# Altium footprint library SMD POWER INDUCTOR.PcbLib: 4 footprints
Each footprint in its own frame and in the unit in brackets; x right, y up, seen from the top. Pads: shape width x height; smd on the part's side, far side on the other; paste and mask are expansions set on the pad; w line width, h text height; cw(c..) or ccw(c..) is an arc to the next point about the centre after c.
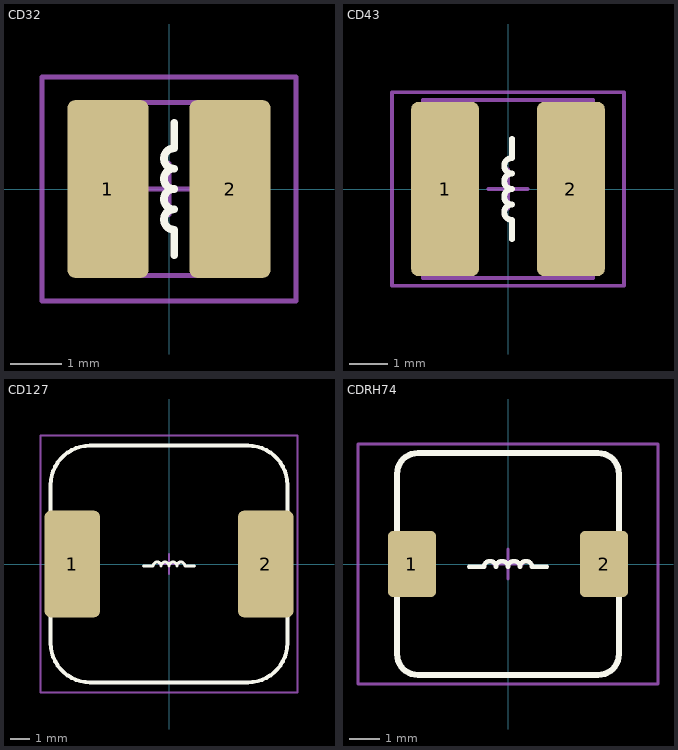
[diagram p0: the footprints below, top view; thin cyan lines are the x and y axes]

## CD32 [mm]
pads (2):
  rrect20% 1.6x3.5 smd mask+0.05: 1(-1.2,0) 2(1.2,0)
Top Overlay:
  lines w0.15: 0.1,-1.3 0.1,-0.8 cw(c0.1,-0.6) 0.1,-0.4 cw(c0.1,-0.2) 0.1,0 cw(c0.1,0.2) 0.1,0.4 cw(c0.1,0.6) 0.1,0.8 0.1,1.3
Bottom Assembly:
  lines w0.1: -1.8,-1.7 -1.8,1.7 1.8,1.7 1.8,-1.7 -1.8,-1.7
Top Courtyard:
  lines w0.1: -2.5,-2.2 2.5,-2.2 2.5,2.2 -2.5,2.2 -2.5,-2.2
Top Component Center:
  lines w0.1: -0.5,0 0.5,0 ; 0,-0.5 0,0.5
3D body "Inductor_CD32.STEP": height 2.3, standoff -0.17, extent -1.704,-1.644 1.704,1.644

## CD43 [mm]
pads (2):
  rrect20% 1.75x4.5 smd mask+0.05: 1(-1.625,0) 2(1.625,0)
Top Overlay:
  lines w0.15: 0.1,-1.3 0.1,-0.8 cw(c0.1,-0.6) 0.1,-0.4 cw(c0.1,-0.2) 0.1,0 cw(c0.1,0.2) 0.1,0.4 cw(c0.1,0.6) 0.1,0.8 0.1,1.3
Bottom Assembly:
  lines w0.1: -2.2,-2.3 2.2,-2.3 2.2,2.3 -2.2,2.3 -2.2,-2.3
Top Courtyard:
  lines w0.1: -3,-2.5 -3,2.5 3,2.5 3,-2.5 -3,-2.5
Top Component Center:
  lines w0.1: -0.5,0 0.5,0 ; 0,-0.5 0,0.5
3D body "CD43_inductor.STEP": height 3.2, standoff 0, extent -2.194,-2.25 2.194,2.25

## CD127 [mm]
pads (2):
  rrect20% 2.8x5.4 smd mask+0.05: 1(-4.9,0) 2(4.9,0)
Top Overlay:
  lines w0.15: -1.3,-0.1 -0.8,-0.1 cw(c-0.6,-0.1) -0.4,-0.1 cw(c-0.2,-0.1) 0,-0.1 cw(c0.2,-0.1) 0.4,-0.1 cw(c0.6,-0.1) 0.8,-0.1 1.3,-0.1
  lines w0.2: -6,-4 ccw(c-4,-4) -4,-6 4,-6 ccw(c4,-4) 6,-4 6,4 ccw(c4,4) 4,6 -4,6 ccw(c-4,4) -6,4 -6,-4
Bottom Assembly:
  lines w0.1: -6,-4 ccw(c-4,-4) -4,-6 4,-6 ccw(c4,-4) 6,-4 6,4 ccw(c4,4) 4,6 -4,6 ccw(c-4,4) -6,4 -6,-4
Top Courtyard:
  lines w0.1: -6.5,-6.5 6.5,-6.5 6.5,6.5 -6.5,6.5 -6.5,-6.5
Top Component Center:
  lines w0.1: -0.5,0 0.5,0 ; 0,-0.5 0,0.5
3D body "L_12x12mm_H8mm.step": height 7.46, standoff -0.1, extent -6,-6 6,6

## CDRH74 [mm]
pads (2):
  rrect20% 1.6x2.2 smd mask+0.05: 1(-3.2,0) 2(3.2,0)
Top Overlay:
  lines w0.15: -1.3,-0.1 -0.8,-0.1 cw(c-0.6,-0.1) -0.4,-0.1 cw(c-0.2,-0.1) 0,-0.1 cw(c0.2,-0.1) 0.4,-0.1 cw(c0.6,-0.1) 0.8,-0.1 1.3,-0.1
  lines w0.2: -3.7,-3 ccw(c-3,-3) -3,-3.7 3,-3.7 ccw(c3,-3) 3.7,-3 3.7,3 ccw(c3,3) 3,3.7 -3,3.7 ccw(c-3,3) -3.7,3 -3.7,-3
Top Assembly:
  lines w0.1: -3.7,-3 ccw(c-3,-3) -3,-3.7 3,-3.7 ccw(c3,-3) 3.7,-3 3.7,3 ccw(c3,3) 3,3.7 -3,3.7 ccw(c-3,3) -3.7,3 -3.7,-3
Top Courtyard:
  lines w0.1: -5,-4 -5,4 5,4 5,-4 -5,-4
Top Component Center:
  lines w0.1: -0.5,0 0.5,0 ; 0,-0.5 0,0.5
3D body "CDRN74.stp": height 4.39, standoff -0.11, extent -3.65,-3.65 3.65,3.65